# Altium footprint library AstraSOM-261x-pcb.PcbLib: 1 footprints
Each footprint in its own frame and in the unit in brackets; x right, y up, seen from the top. Pads: shape width x height; smd on the part's side, far side on the other; paste and mask are expansions set on the pad; w line width, h text height; cw(c..) or ccw(c..) is an arc to the next point about the centre after c.
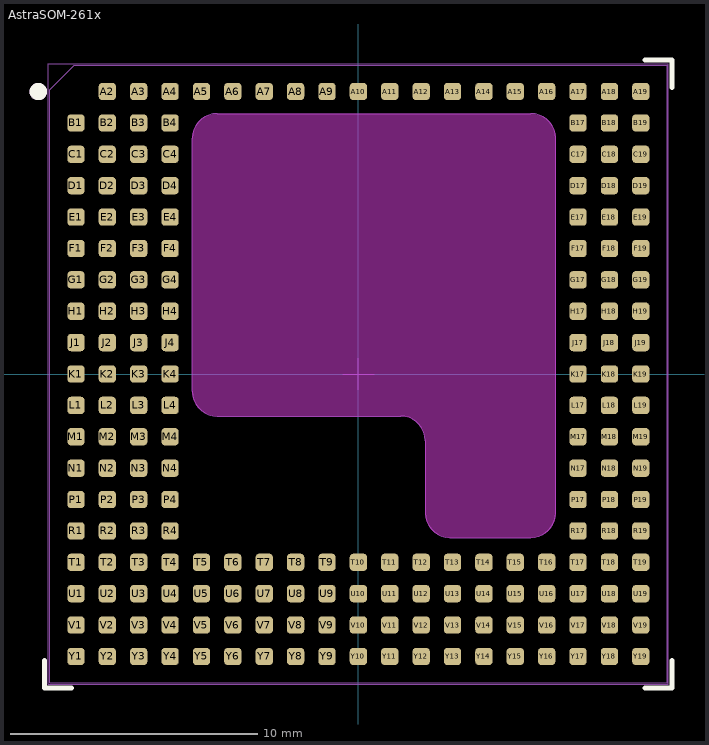
[diagram p0: the footprint, top view; thin cyan lines are the x and y axes]

## AstraSOM-261x [mm] "AstraSOM-261x 25mm x 25mm LGA178 System-on-Module footprint. Land pattern for Grinn AstraSOM-261x Edge AI SoM. Verify mechanical dimensions and assembly requirements with latest manufacturer documentation."
height 2.4
pads (192):
  rrect42% 0.7x0.7 smd mask+0.05: A2(-10.16,11.43) A3(-8.89,11.43) A4(-7.62,11.43) A5(-6.35,11.43) A6(-5.08,11.43) A7(-3.81,11.43) A8(-2.54,11.43) A9(-1.27,11.43) A10(0,11.43) A11(1.27,11.43) A12(2.54,11.43) A13(3.81,11.43) A14(5.08,11.43) A15(6.35,11.43) A16(7.62,11.43) A17(8.89,11.43) A18(10.16,11.43) A19(11.43,11.43) B1(-11.43,10.16) B2(-10.16,10.16) B3(-8.89,10.16) B4(-7.62,10.16) B17(8.89,10.16) B18(10.16,10.16) B19(11.43,10.16) C1(-11.43,8.89) C2(-10.16,8.89) C3(-8.89,8.89) C4(-7.62,8.89) C17(8.89,8.89) C18(10.16,8.89) C19(11.43,8.89) D1(-11.43,7.62) D2(-10.16,7.62) D3(-8.89,7.62) D4(-7.62,7.62) D17(8.89,7.62) D18(10.16,7.62) D19(11.43,7.62) E1(-11.43,6.35) E2(-10.16,6.35) E3(-8.89,6.35) E4(-7.62,6.35) E17(8.89,6.35) E18(10.16,6.35) E19(11.43,6.35) F1(-11.43,5.08) F2(-10.16,5.08) F3(-8.89,5.08) F4(-7.62,5.08) F17(8.89,5.08) F18(10.16,5.08) F19(11.43,5.08) G1(-11.43,3.81) G2(-10.16,3.81) G3(-8.89,3.81) G4(-7.62,3.81) G17(8.89,3.81) G18(10.16,3.81) G19(11.43,3.81) H1(-11.43,2.54) H2(-10.16,2.54) H3(-8.89,2.54) H4(-7.62,2.54) H17(8.89,2.54) H18(10.16,2.54) H19(11.43,2.54) J1(-11.43,1.27) J2(-10.16,1.27) J3(-8.89,1.27) J4(-7.62,1.27) J17(8.89,1.27) J18(10.16,1.27) J19(11.43,1.27) K1(-11.43,0) K2(-10.16,0) K3(-8.89,0) K4(-7.62,0) K17(8.89,0) K18(10.16,0) K19(11.43,0) L1(-11.43,-1.27) L2(-10.16,-1.27) L3(-8.89,-1.27) L4(-7.62,-1.27) L17(8.89,-1.27) L18(10.16,-1.27) L19(11.43,-1.27) M1(-11.43,-2.54) M2(-10.16,-2.54) M3(-8.89,-2.54) M4(-7.62,-2.54) M17(8.89,-2.54) M18(10.16,-2.54) M19(11.43,-2.54) N1(-11.43,-3.81) N2(-10.16,-3.81) N3(-8.89,-3.81) N4(-7.62,-3.81) N17(8.89,-3.81) N18(10.16,-3.81) N19(11.43,-3.81) P1(-11.43,-5.08) P2(-10.16,-5.08) P3(-8.89,-5.08) P4(-7.62,-5.08) P17(8.89,-5.08) P18(10.16,-5.08) P19(11.43,-5.08) R1(-11.43,-6.35) R2(-10.16,-6.35) R3(-8.89,-6.35) R4(-7.62,-6.35) R17(8.89,-6.35) R18(10.16,-6.35) R19(11.43,-6.35) T1(-11.43,-7.62) T2(-10.16,-7.62) T3(-8.89,-7.62) T4(-7.62,-7.62) T5(-6.35,-7.62) T6(-5.08,-7.62) T7(-3.81,-7.62) T8(-2.54,-7.62) T9(-1.27,-7.62) T10(0,-7.62) T11(1.27,-7.62) T12(2.54,-7.62) T13(3.81,-7.62) T14(5.08,-7.62) T15(6.35,-7.62) T16(7.62,-7.62) T17(8.89,-7.62) T18(10.16,-7.62) T19(11.43,-7.62) U1(-11.43,-8.89) U2(-10.16,-8.89) U3(-8.89,-8.89) U4(-7.62,-8.89) U5(-6.35,-8.89) U6(-5.08,-8.89) U7(-3.81,-8.89) U8(-2.54,-8.89) U9(-1.27,-8.89) U10(0,-8.89) U11(1.27,-8.89) U12(2.54,-8.89) U13(3.81,-8.89) U14(5.08,-8.89) U15(6.35,-8.89) U16(7.62,-8.89) U17(8.89,-8.89) U18(10.16,-8.89) U19(11.43,-8.89) V1(-11.43,-10.16) V2(-10.16,-10.16) V3(-8.89,-10.16) V4(-7.62,-10.16) V5(-6.35,-10.16) V6(-5.08,-10.16) V7(-3.81,-10.16) V8(-2.54,-10.16) V9(-1.27,-10.16) V10(0,-10.16) V11(1.27,-10.16) V12(2.54,-10.16) V13(3.81,-10.16) V14(5.08,-10.16) V15(6.35,-10.16) V16(7.62,-10.16) V17(8.89,-10.16) V18(10.16,-10.16) V19(11.43,-10.16) Y1(-11.43,-11.43) Y2(-10.16,-11.43) Y3(-8.89,-11.43) Y4(-7.62,-11.43) Y5(-6.35,-11.43) Y6(-5.08,-11.43) Y7(-3.81,-11.43) Y8(-2.54,-11.43) Y9(-1.27,-11.43) Y10(0,-11.43) Y11(1.27,-11.43) Y12(2.54,-11.43) Y13(3.81,-11.43) Y14(5.08,-11.43) Y15(6.35,-11.43) Y16(7.62,-11.43) Y17(8.89,-11.43) Y18(10.16,-11.43) Y19(11.43,-11.43)
Top Overlay:
  circle w0.5: c-12.954,11.43 r0.1
  lines w0.2: -12.7,-11.6 -12.7,-12.7 -11.6,-12.7 ; 11.6,-12.7 12.7,-12.7 12.7,-11.6 ; 11.6,12.7 12.7,12.7 12.7,11.6
Keep-Out Layer:
  board cut-out: 6.98,-6.62 7.078,-6.62 7.272,-6.582 7.454,-6.506 7.617,-6.397 7.757,-6.257 7.866,-6.094 7.942,-5.912 7.98,-5.718 7.98,-5.62 7.98,9.54 7.98,9.638 7.942,9.832 7.866,10.014 7.757,10.177 7.617,10.317 7.454,10.426 7.272,10.502 7.078,10.54 6.98,10.54 -5.72,10.54 -5.818,10.54 -6.012,10.502 -6.194,10.426 -6.357,10.317 -6.497,10.177 -6.606,10.014 -6.682,9.832 -6.72,9.638 -6.72,9.54 -6.72,-0.7 -6.72,-0.798 -6.682,-0.992 -6.606,-1.174 -6.497,-1.337 -6.357,-1.477 -6.194,-1.586 -6.012,-1.662 -5.818,-1.7 -5.72,-1.7 1.71,-1.7 1.708,-1.7 1.806,-1.705 1.998,-1.743 2.179,-1.818 2.342,-1.927 2.481,-2.066 2.59,-2.229 2.665,-2.41 2.703,-2.602 2.708,-2.7 2.708,-5.62 2.708,-5.718 2.746,-5.912 2.822,-6.094 2.931,-6.257 3.07,-6.397 3.234,-6.506 3.416,-6.582 3.609,-6.62 3.708,-6.62
Mechanical 1:
  lines w0.01: 1.708,-1.7 cw(c1.708,-2.7) 2.708,-2.7 2.708,-5.62 ccw(c3.708,-5.62) 3.708,-6.62 6.98,-6.62 ccw(c6.98,-5.62) 7.98,-5.62 7.98,9.54 ccw(c6.98,9.54) 6.98,10.54 -5.72,10.54 ccw(c-5.72,9.54) -6.72,9.54 -6.72,-0.7 ccw(c-5.72,-0.7) -5.72,-1.7 1.71,-1.7
Top Assembly:
  circle w0.5: c-12.954,11.43 r0.1
  lines w0.01: -0.635,0 0.635,0 ; 0,-0.635 0,0.635 ; -12.5,-12.5 -12.5,11.5 -11.5,12.5 12.5,12.5 12.5,-12.5 -12.5,-12.5
  text "Y" at -13.334,-11.836 h1.27
  text "A" at -13.488,11.024 h1.27
  text "1" at -11.608,12.546 h1.27
  text "19" at 10.87,12.553 h1.27
  text ".Designator" at -3.71,-0.344 h1.52
  text "Board Cutout" at -3.577,4.927 h1.27
Top 3D Body:
  circle w0.5: c-12.954,11.43 r0.1
Top Courtyard:
  lines w0.01: -12.55,-12.55 -12.55,12.55 12.55,12.55 12.55,-12.55 -12.55,-12.55